# Altium schematic symbol library ANT11SF1CQE.SchLib: 1 symbol
Pins are listed as number, name and electrical type; pins without a type are passive.

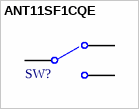
[diagram p0: symbol ANT11SF1CQE]

## ANT11SF1CQE
designator SW?  (value not drawn)
Switch - Toggle, SPDT, 5A @ 28VDC; Temp Range: -40°C ~ 85°C (TA); MF Part No.: ANT11SF1CQE; Package: -; Supplier 1: Digikey; Supplier 1 Part No.: 2449-ANT11SF1CQE-ND; Rated Current: 5A; Rated Voltage: 28 VDC; Circuit: SPDT
footprint ANT11SF1CQE (Toggle switch, SPDT)
pins: 1 (power), 2 (power), 3 (power)